# Altium schematic symbol library ICLib.SchLib: 8 symbols
Pins are listed as number, name and electrical type; pins without a type are passive.

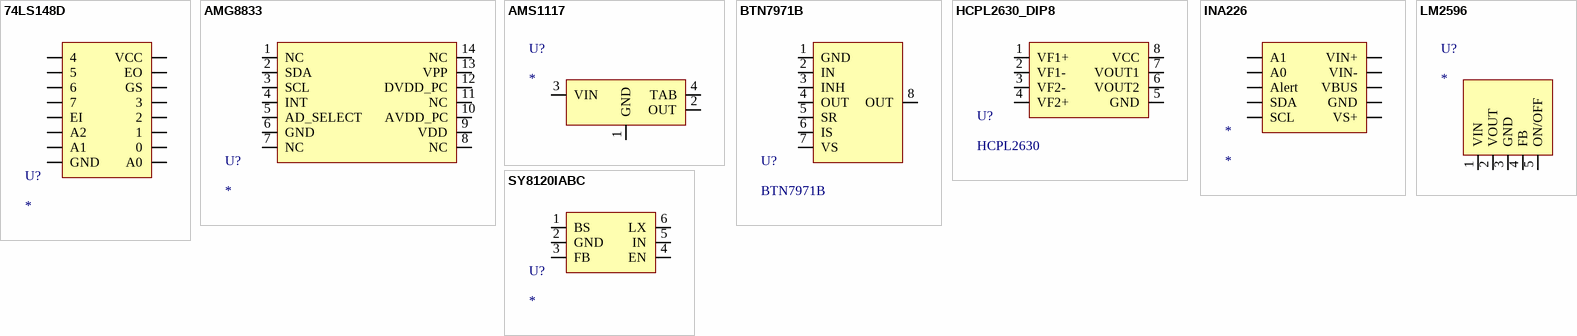
[diagram p0: symbols 74LS148D to SY8120IABC]

## 74LS148D
designator U?
footprint SOIC-16
pins: 1 4, 2 5, 3 6, 4 7, 5 EI, 6 A2, 7 A1, 8 GND, 9 A0, 10 0, 11 1, 12 2, 13 3, 14 GS, 15 EO, 16 VCC

## AMG8833
designator U?
footprint AMG8833
pins: 1 NC, 2 SDA, 3 SCL, 4 INT, 5 AD_SELECT, 6 GND, 7 NC, 8 NC, 9 VDD, 10 AVDD_PC, 11 NC, 12 DVDD_PC, 13 VPP, 14 NC

## AMS1117
designator U?
footprint AMS1117
pins: 1 GND, 2 OUT, 3 VIN, 4 TAB

## BTN7971B
designator U?
footprint BTN7971B
pins: 1 GND, 2 IN, 3 INH, 4 OUT, 5 SR, 6 IS, 7 VS, 8 OUT

## HCPL2630_DIP8
designator U?, comment HCPL2630
footprint DIP8
pins: 1 VF1+, 2 VF1-, 3 VF2-, 4 VF2+, 5 GND, 6 VOUT2, 7 VOUT1, 8 VCC

## INA226
designator *
footprint INA226
pins: 1 A1, 2 A0, 3 Alert, 4 SDA, 5 SCL, 6 VS+, 7 GND, 8 VBUS, 9 VIN-, 10 VIN+

## LM2596
designator U?
footprint LM2596
pins: 1 VIN, 2 VOUT, 3 GND, 4 FB, 5 ON/OFF

## SY8120IABC
designator U?
footprint SY8120IABC
pins: 1 BS, 2 GND, 3 FB, 4 EN, 5 IN, 6 LX